# Altium schematic symbol library przem_lib.SchLib: 31 symbols
Pins are listed as number, name and electrical type; pins without a type are passive.

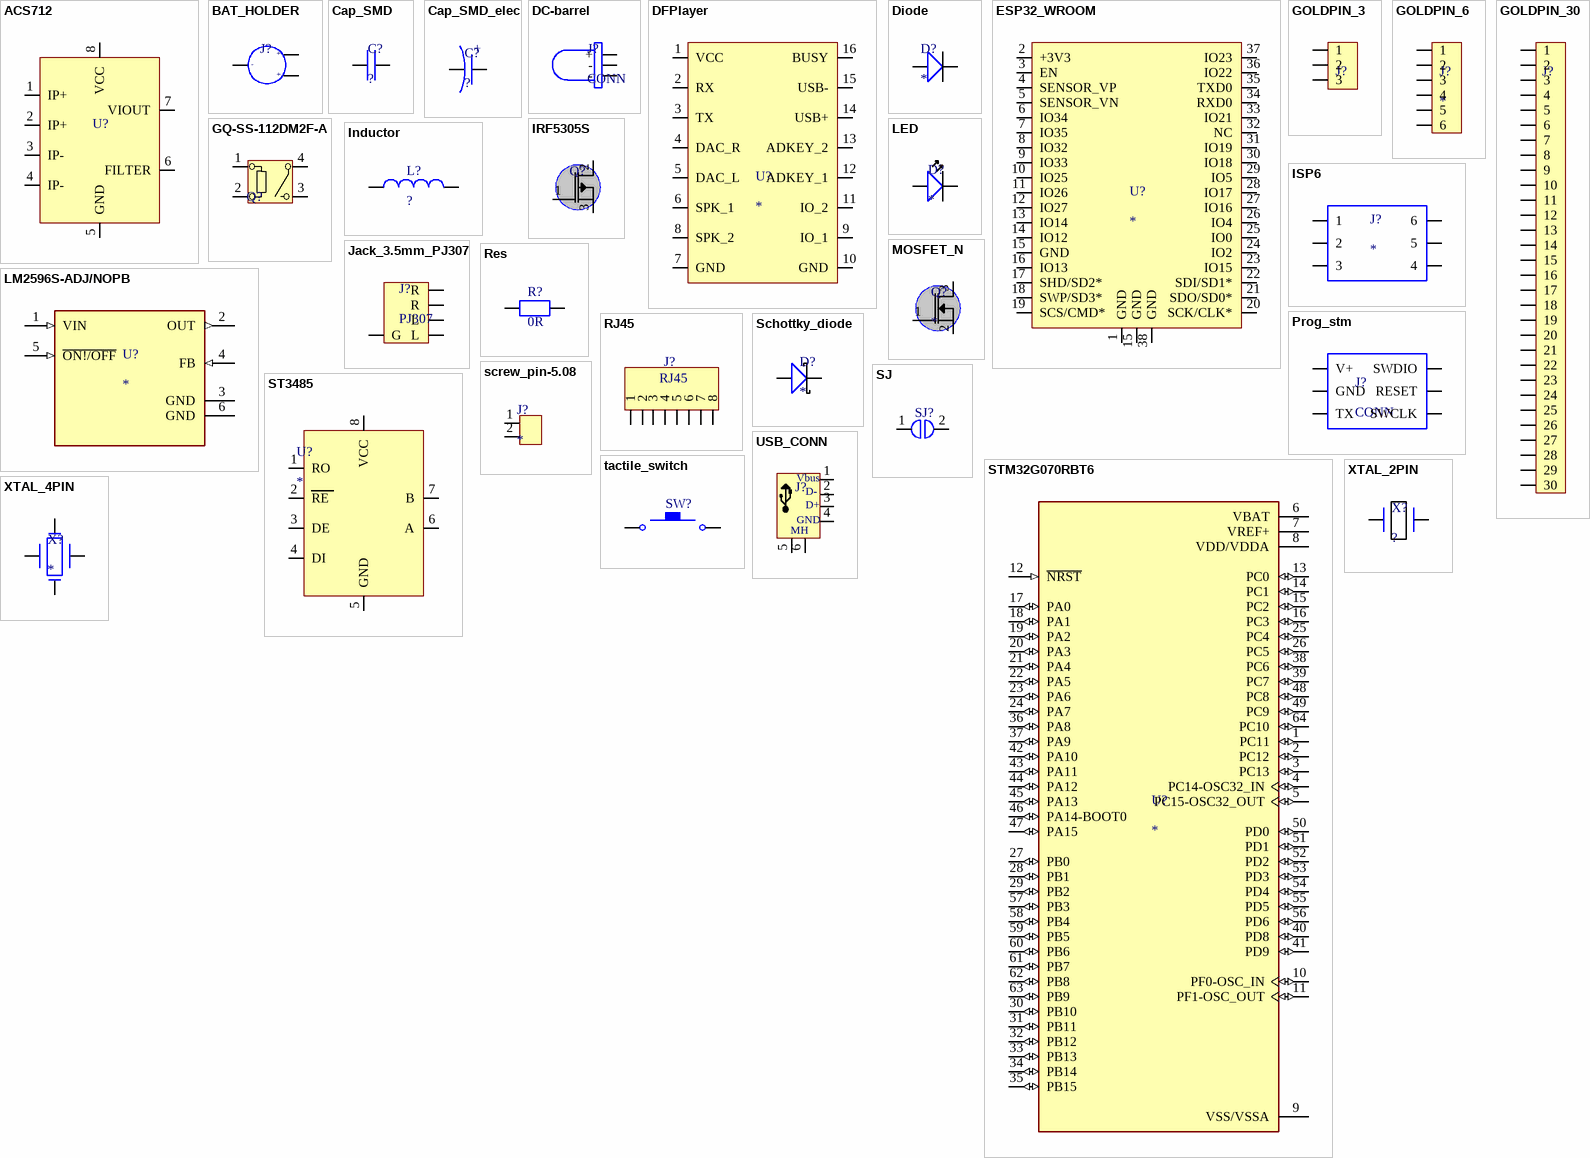
[diagram p0: symbols ACS712 to XTAL_4PIN]

## ACS712
designator U?
footprint SOIC-8
pins: 1 IP+, 2 IP+, 3 IP-, 4 IP-, 5 GND, 6 FILTER, 7 VIOUT, 8 VCC

## BAT_HOLDER
designator J?
footprint BAT_HOLDER
pins: 1 +, 2 +, 3 -

## Cap_SMD
designator C?, comment ?
footprint C0805
footprint C0603
pins: 1, 2

## Cap_SMD_elec
designator C?, comment ?
footprint C_Pol_6.3x7.7
pins: 1, 2
text: +

## DC-barrel
designator J?, comment CONN
pins: 1 +, 2 -, 3 -

## DFPlayer
designator U?
footprint DFPLAYER
pins: 1 VCC, 2 RX, 3 TX, 4 DAC_R, 5 DAC_L, 6 SPK_1, 7 GND, 8 SPK_2, 9 IO_1, 10 GND, 11 IO_2, 12 ADKEY_1, 13 ADKEY_2, 14 USB+, 15 USB-, 16 BUSY

## Diode
designator D?
footprint D_SMA
footprint SOD123F
pins: A, K

## ESP32_WROOM
designator U?
footprint ESP32-WROOM-32; pin to pad 38>38+39
pins: 1 GND, 2 +3V3, 3 EN, 4 SENSOR_VP, 5 SENSOR_VN, 6 IO34, 7 IO35, 8 IO32, 9 IO33, 10 IO25, 11 IO26, 12 IO27, 13 IO14, 14 IO12, 15 GND, 15 GND, 16 IO13, 17 SHD/SD2*, 18 SWP/SD3*, 19 SCS/CMD*, 20 SCK/CLK*, 21 SDO/SD0*, 22 SDI/SD1*, 23 IO15, 24 IO2, 25 IO0, 26 IO4, 27 IO16, 28 IO17, 29 IO5, 30 IO18, 31 IO19, 32 NC, 33 IO21, 34 RXD0, 35 TXD0, 36 IO22, 37 IO23, 38 GND

## GOLDPIN_3
designator J?
footprint PIN_HEADER_3_MALE
pins: 1, 2, 3

## GOLDPIN_6
designator J?
footprint pin_header_6_male
pins: 1, 2, 3, 4, 5, 6

## GOLDPIN_30
designator J?
footprint PIN_HEADER_30_MALE
pins: 1, 2, 3, 4, 5, 6, 7, 8, 9, 10, 11, 12, 13, 14, 15, 16, 17, 18, 19, 20, 21, 22, 23, 24, 25, 26, 27, 28, 29, 30

## GQ-SS-112DM2F-A
designator Q?
footprint GQ-SS-112DM2F-a
pins: 1, 2, 3, 4

## Inductor
designator L?, comment ?
footprint SRR1260-330M
pins: 1, 2

## IRF5305S
designator Q?
footprint DDPAK
pins: 1 G, 2, 3

## ISP6
designator J?
footprint ISP-6
pins: 1, 2, 3, 4, 5, 6

## Jack_3.5mm_PJ307
designator J?, comment PJ307
footprint PJ307
pins: 1 G, 2 L, 3 L, 4 R, 5 R

## LED
designator D?
footprint LED0805
pins: A, K

## LM2596S-ADJ/NOPB
designator U?
SIMPLE SWITCHER&reg; 4.5V to 40V, 3A Low Component Count Step-Down Regulator 5-DDPAK/TO-263 -40 to 125; MP: LM2596S-ADJ/NOPB; MF: Texas Instruments; Price: None; Availability: Unavailable; SnapEDA_Link: https://www.snapeda.com/parts/LM2596S-ADJ/NOPB/Texas%20Instruments/view-part/276908/?ref=snap; Texas_Instruments-Purchase-URL: https://snapeda.com/shop?store=Texas+Instruments&id=276908; Value: *; Mouser-Purchase-URL: https://snapeda.com/shop?store=Mouser&id=276908; Package: TO-263-5 Texas Instruments; DigiKey-Purchase-URL: https://snapeda.com/shop?store=DigiKey&id=276908
footprint TO-263
pins: 1 VIN (in), 2 OUT (out), 3 GND (power), 4 FB (in), 5 ~{ON!/OFF} (in), 6 GND (power)

## MOSFET_N
designator Q?
footprint SOT23
pins: 1 G, 2, 3

## Prog_stm
designator J?, comment CONN
pins: 1 V+, 2 GND, 3 TX, 4 SWCLK, 5 RESET, 6 SWDIO

## Res
designator R?, comment 0R
footprint R0805
footprint R0603
footprint R0201
pins: 1, 2

## RJ45
designator J?
footprint RJ45
pins: 1, 2, 3, 4, 5, 6, 7, 8

## Schottky_diode
designator D?
footprint DO-214AA
pins: A, K

## screw_pin-5.08
designator J?
footprint screw_pin-5.08
pins: 1, 2

## SJ
designator SJ?
footprint SJ
pins: 1, 2

## ST3485
designator U?
footprint SO8
pins: 1 RO, 2 RE, 3 DE, 4 DI, 5 GND, 6 A, 7 B, 8 VCC

## STM32G070RBT6
designator U?
ARMÂ® CortexÂ®-M0+ STM32G0 Microcontroller IC 32-Bit 64MHz 128KB _128K x 8_ FLASH 64-LQFP _10x10_; MF: STMicroelectronics; MP: STM32G070RBT6; Package: LQFP-64 STMicroelectronics; Value: *; Availability: Unavailable; SnapEDA_Link: https://www.snapeda.com/parts/STM32G070RBT6/STMicroelectronics/view-part/3616430/?ref=snap; Price: None
footprint STM32
pins: 1 PC11 (io), 2 PC12 (io), 3 PC13 (io), 4 PC14-OSC32_IN (io), 5 PC15-OSC32_OUT (io), 6 VBAT (power), 7 VREF+ (power), 8 VDD/VDDA (power), 9 VSS/VSSA (power), 10 PF0-OSC_IN (io), 11 PF1-OSC_OUT (io), 12 ~{NRST} (in), 13 PC0 (io), 14 PC1 (io), 15 PC2 (io), 16 PC3 (io), 17 PA0 (io), 18 PA1 (io), 19 PA2 (io), 20 PA3 (io), 21 PA4 (io), 22 PA5 (io), 23 PA6 (io), 24 PA7 (io), 25 PC4 (io), 26 PC5 (io), 27 PB0 (io), 28 PB1 (io), 29 PB2 (io), 30 PB10 (io), 31 PB11 (io), 32 PB12 (io), 33 PB13 (io), 34 PB14 (io), 35 PB15 (io), 36 PA8 (io), 37 PA9 (io), 38 PC6 (io), 39 PC7 (io), 40 PD8 (io), 41 PD9 (io), 42 PA10 (io), 43 PA11 (io), 44 PA12 (io), 45 PA13 (io), 46 PA14-BOOT0 (io), 47 PA15 (io), 48 PC8 (io), 49 PC9 (io), 50 PD0 (io), 51 PD1 (io), 52 PD2 (io), 53 PD3 (io), 54 PD4 (io), 55 PD5 (io), 56 PD6 (io), 57 PB3 (io), 58 PB4 (io), 59 PB5 (io), 60 PB6 (io), 61 PB7 (io), 62 PB8 (io), 63 PB9 (io), 64 PC10 (io)

## tactile_switch
designator SW?
footprint tact_sw_3mmx4mm
pins: 1, 3

## USB_CONN
designator J?
footprint USB_A
pins: 1, 2 D-, 3 D+, 4, 5, 6
text: Vbus; GND; MH

## XTAL_2PIN
designator X?, comment ?
footprint XTAL_2PIN_3.2X1.5mm
pins: 1, 2

## XTAL_4PIN
designator X?
footprint XTAL_4PIN_3.2x2.5mm
pins: 1, 2 (power), 3, 4 (power)